# Altium footprint library SmartHalo_Footprints.PcbLib: 114 footprints (part 2 of 8)
Each footprint in its own frame and in the unit in brackets; x right, y up, seen from the top. Pads: shape width x height; smd on the part's side, far side on the other; paste and mask are expansions set on the pad; w line width, h text height; cw(c..) or ccw(c..) is an arc to the next point about the centre after c.
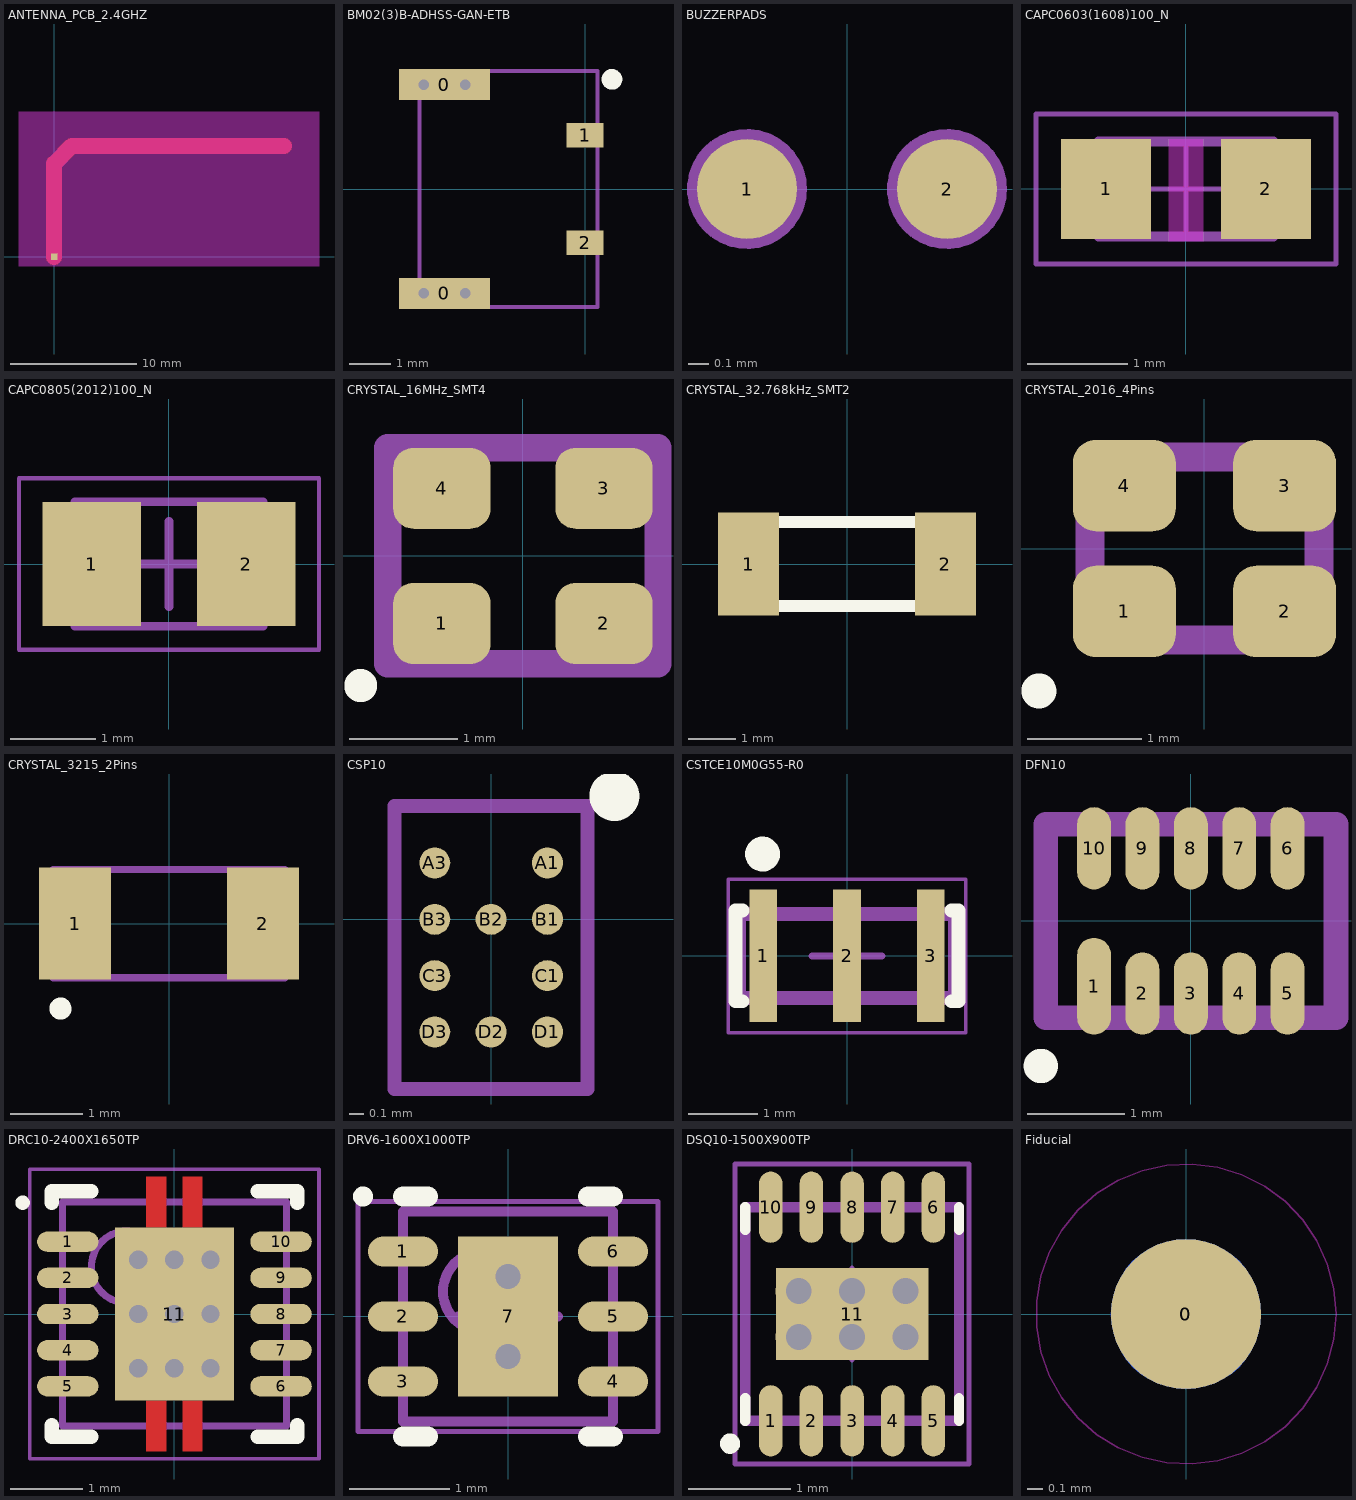
[diagram p1: the footprints below, top view; thin cyan lines are the x and y axes]

## ANTENNA_PCB_2.4GHZ [mm] "ANT_PCB_2.4GHZ_NRF51422_1.6MM_1OZ"
height 0.036
pads (1):
  rect 0.5x0.5 smd paste-1.27: 1(0,0)
Top Layer:
  lines w1.27: 0,0 0,7.37 1.4,8.77 18.16,8.77
Top Solder:
  rectangle: 17.418,8.027 18.903,9.513
Keep-Out Layer:
  region: 20.925,-0.75 20.925,11.475 -2.775,11.475 -2.775,-0.75

## BM02(3)B-ADHSS-GAN-ETB [mm] "ADH Connector, 2 pins, 0.9 x 0.6 mm pads, 2 mecanical pads 2.2 x 0.75 mm"
height 1.9
pads (4):
  rect 2.2x0.75 smd: 0(-3.4,-2.525) 0(-3.4,2.525)
  rect 0.9x0.6 smd: 1(0,1.3) 2(0,-1.3)
via -2.9,-2.525 diameter 0.457 hole 0.254
via -3.9,-2.525 diameter 0.457 hole 0.254
via -2.9,2.525 diameter 0.457 hole 0.254
via -3.9,2.525 diameter 0.457 hole 0.254
Top Overlay:
  circle w0.25: c0.65,2.65 r0.125
3D Top:
  lines w0.1: -4,-2.85 0.3,-2.85 0.3,2.85 -4,2.85 -4,-2.85
3D body: height 1.9, standoff 0, extent -4,-2.85 0.3,2.85

## BUZZERPADS [mm] "Buzzer Pogo Pin Pads, 2 x 0.5mm, Pitch 1mm"
height 10
pads (2):
  round 0.5 smd: 1(-0.5,0) 2(0.5,0)
3D Top:
  circle w0.1: c-0.5,0 r0.25
  circle w0.1: c0.5,0 r0.25
3D body: height 9, standoff 0, extent 0.25,-0.25 0.748,0.249
3D body: height 9, standoff 0, extent -0.748,-0.25 -0.25,0.25

## CAPC0603(1608)100_N [mm] "Chip Capacitor, Body 1.6x0.8mm, Height 1.0mm, IPC Medium Density"
height 1
pads (2):
  rect 0.9x1 smd: 1(-0.8,0) 2(0.8,0)
Top Layer keep-out:
  rectangle: -0.175,-0.525 0.175,0.5
3D Top:
  lines w0.1: -0.875,-0.475 -0.875,0.475 0.875,0.475 0.875,-0.475 -0.875,-0.475
Courtyard Top:
  lines w0.05: -0.475,0 0.475,0 ; 0,-0.475 0,0.475 ; -1.5,-0.75 -1.5,0.75 1.5,0.75 1.5,-0.75 -1.5,-0.75
3D body: height 1, standoff 0, extent -0.525,-0.475 0.525,0.475
3D body: height 1, standoff 0, extent -0.875,-0.475 -0.525,0.475
3D body: height 1, standoff 0, extent 0.525,-0.475 0.875,0.475

## CAPC0805(2012)100_N [mm] "Chip Capacitor, Body 2.0x1.2mm, Height 1.0mm, IPC Medium Density"
height 1
pads (2):
  rect 1.15x1.45 smd: 1(-0.9,0) 2(0.9,0)
3D Top:
  lines w0.1: -1.1,-0.725 -1.1,0.725 1.1,0.725 1.1,-0.725 -1.1,-0.725
Courtyard Top:
  lines w0.05: -1.75,-1 -1.75,1 1.75,1 1.75,-1 -1.75,-1
  lines w0.1: -0.5,0 0.5,0 ; 0,-0.5 0,0.5
3D body: height 1, standoff 0, extent -0.6,-0.725 0.6,0.725
3D body: height 1, standoff 0, extent -1.1,-0.725 -0.6,0.725
3D body: height 1, standoff 0, extent 0.6,-0.725 1.1,0.725

## CRYSTAL_16MHz_SMT4 [mm] "CRYSTAL 2.5 x 2.0 mm, 4 Pads, 1.5 mm Horizontal Pitch, 1.25 mm Vertical Pitch"
height 0.75
pads (4):
  rrect50% 0.9x0.75 smd: 1(-0.75,-0.625) 2(0.75,-0.625) 3(0.75,0.625) 4(-0.75,0.625)
Top Overlay:
  circle w0.254: c-1.5,-1.2 r0.025
3D Top:
  lines w0.254: -1.25,-1 1.25,-1 1.25,1 -1.25,1 -1.25,-1
3D body: height 0.75, standoff 0, extent -1.25,-1 1.25,1

## CRYSTAL_32.768kHz_SMT2 [mm] "CRYSTAL 32.768kHz, 4.9 x 1.8 x 0.80 mm, 4.2 mm Pitch"
height 0.8
pads (2):
  rect 1.3x2.2 smd: 1(-2.1,0) 2(2.1,0)
Top Overlay:
  lines w0.254: -2.45,-0.9 -2.45,0.9 2.45,0.9 2.45,-0.9 -2.45,-0.9
3D Top:
  lines w0.254: -2.45,-0.9 2.45,-0.9 ; -2.45,-0.9 -2.45,0.9 ; -2.45,-0.9 2.45,-0.9 ; -2.45,-0.9 -2.45,0.9 ; -2.45,0.9 2.45,0.9 ; -2.45,0.9 2.45,0.9 ; 2.45,-0.9 2.45,0.9 ; 2.45,-0.9 2.45,0.9
3D body: height 0.8, standoff 0, extent -2.45,-0.9 2.45,0.9

## CRYSTAL_2016_4Pins [mm] "CRYSTAL 2.0 x 1.6 mm, 4 Pads, 1.4 mm Horizontal Pitch, 1.1 mm Vertical Pitch"
height 0.4
pads (4):
  rrect50% 0.9x0.8 smd: 1(-0.7,-0.55) 2(0.7,-0.55) 3(0.7,0.55) 4(-0.7,0.55)
Top Overlay:
  lines w0.254: -1.428,-1.228 ccw(c-1.448,-1.245) -1.422,-1.245
3D Top:
  lines w0.254: -1,-0.8 -1,0.8 1,0.8 1,-0.8 -1,-0.8
3D body: height 0.4, standoff 0, extent -1,-0.8 1,0.8

## CRYSTAL_3215_2Pins [mm] "CRYSTAL 3.2 x 1.5 x 0.8 mm, 2 Pads 1.0 x 1.55 mm, 2.6 mm pitch"
height 0.8
pads (2):
  rect 1x1.55 smd: 1(-1.3,0) 2(1.3,0)
Top Overlay:
  lines w0.254: -1.48,-1.159 ccw(c-1.5,-1.175) -1.475,-1.175
3D Top:
  lines w0.1: -1.6,-0.75 1.6,-0.75 1.6,0.75 -1.6,0.75 -1.6,-0.75
3D body: height 0.8, standoff 0, extent -1.6,-0.75 1.6,0.75

## CSP10 [mm] "CSP10, 10 pins, 2.01 x 1.37 x 0.6 mm body, 0.22 mm circular pads, 0.4 mm pitch"
height 0.6
pads (10):
  round 0.22 smd mask+0.02: A1(0.4,0.4) A3(-0.4,0.4) B1(0.4,0) B2(0,0) B3(-0.4,0) C1(0.4,-0.4) C3(-0.4,-0.4) D1(0.4,-0.8) D2(0,-0.8) D3(-0.4,-0.8)
Top Overlay:
  circle w0.254: c0.875,0.875 r0.05
3D Top:
  lines w0.1: -0.685,-1.205 -0.685,0.805 0.685,0.805 0.685,-1.205 -0.685,-1.205
3D body: height 0.6, standoff 0.2, extent -0.685,-1.205 0.685,0.805

## CSTCE10M0G55-R0 [mm] "SMD, 3-Leads, Body 3.2x1.3mm, Pitch 1.2mm"
height 0.7
pads (3):
  rect 0.4x1.9 smd: 1(-1.2,0) 2(0,0) 3(1.2,0)
Top Overlay:
  circle w0.25: c-1.21,1.46 r0.125
  lines w0.2: -1.5,-0.65 -1.6,-0.65 -1.6,0.65 -1.5,0.65 ; 1.5,-0.65 1.6,-0.65 1.6,0.65 1.5,0.65
3D Top:
  lines w0.1: -1.6,-0.65 -1.6,0.65 1.6,0.65 1.6,-0.65 -1.6,-0.65 ; -1.5,-0.55 1.5,-0.55 1.5,0.55 -1.5,0.55 -1.5,-0.55
Courtyard Top:
  lines w0.05: -1.7,-1.1 -1.7,1.1 1.7,1.1 1.7,-1.1 -1.7,-1.1
  lines w0.1: -0.5,0 0.5,0 ; 0,-0.5 0,0.5
3D body: height 0.4, standoff 0, extent -1.6,-0.65 1.6,0.65
3D body: height 1, standoff 0, extent -1.5,-0.55 1.5,0.55

## DFN10 [mm] "DFN10, 10 pins, 2 x 3 x 0.55 mm body, 0.35 x 0.85 mm pads, 0.5 mm x 1.5 mm pitch."
height 0.55
pads (10):
  oval 0.35x1 smd mask+0.051: 1(-1,-0.675)
  oval 0.35x0.85 smd mask+0.051: 2(-0.5,-0.75) 3(0,-0.75) 4(0.5,-0.75) 5(1,-0.75) 6(1,0.75) 7(0.5,0.75) 8(0,0.75) 9(-0.5,0.75) 10(-1,0.75)
Top Overlay:
  circle w0.254: c-1.55,-1.5 r0.05
3D Top:
  lines w0.254: -1.5,-1 1.5,-1 1.5,1 -1.5,1 -1.5,-1
3D body: height 0.55, standoff 0.05, extent -1.5,-1 1.5,1

## DRC10-2400X1650TP [mm] "SON, 10-Leads, Body 3x3mm, Pitch 0.5mm, Thermal Pad 2.4x1.65mm, TI Recommended"
height 1
pads (11):
  oval 0.85x0.28 smd paste-0.025 mask+0.07: 1(-1.475,1) 2(-1.475,0.5) 3(-1.475,0) 4(-1.475,-0.5) 5(-1.475,-1) 6(1.475,-1) 7(1.475,-0.5) 8(1.475,0) 9(1.475,0.5) 10(1.475,1)
  rect 1.65x2.4 smd paste-0.825 mask+0.07: 11(0,0)
via 0.5,-0.75 diameter 0.457 hole 0.254
via -0.5,-0.75 diameter 0.457 hole 0.254
via -0.5,0.75 diameter 0.457 hole 0.254
via 0.5,0.75 diameter 0.457 hole 0.254
via 0,0 diameter 0.457 hole 0.254
via 0,0.75 diameter 0.457 hole 0.254
via 0.5,0 diameter 0.457 hole 0.254
via -0.5,0 diameter 0.457 hole 0.254
via 0,-0.75 diameter 0.457 hole 0.254
Top Layer:
  rectangle: -0.39,-1.9 -0.11,-1.2
  region: 0.39,-1.2 0.11,-1.2 0.11,-1.9 0.39,-1.9
  region: 0.39,1.9 0.11,1.9 0.11,1.2 0.39,1.2
  rectangle: -0.39,1.2 -0.11,1.9
Top Overlay:
  circle w0.1: c-2.1,1.54 r0.05
  lines w0.2: -1.7,-1.54 -1.7,-1.7 -1.15,-1.7 ; -1.7,1.54 -1.7,1.7 -1.15,1.7 ; 1.15,-1.7 1.7,-1.7 1.7,-1.54 ; 1.15,1.7 1.7,1.7 1.7,1.54
Top Paste:
  rectangle: -0.79,-1.16 -0.11,-0.11
  region: 0.79,-0.11 0.11,-0.11 0.11,-1.16 0.79,-1.16
  region: 0.79,1.16 0.11,1.16 0.11,0.11 0.79,0.11
  rectangle: -0.38,-1.88 -0.12,-1.38
  region: 0.38,-1.38 0.12,-1.38 0.12,-1.88 0.38,-1.88
  region: 0.38,1.88 0.12,1.88 0.12,1.38 0.38,1.38
  rectangle: -0.38,1.38 -0.12,1.88
  rectangle: -0.79,0.11 -0.11,1.16
3D Top:
  circle w0.1: c-0.65,0.65 r0.5
  lines w0.1: -1.55,-1.55 1.55,-1.55 1.55,1.55 -1.55,1.55 -1.55,-1.55
Courtyard Top:
  lines w0.05: -2,-2 2,-2 2,2 -2,2 -2,-2
3D body: height 1, standoff 0, extent -1.55,-1.55 1.55,1.55

## DRV6-1600X1000TP [mm] "SON, 6-Leads, Body 2x2mm, Pitch 0.65mm, Thermal Pad 1.6x1mm, TI Recommended"
height 0.8
pads (7):
  oval 0.7x0.3 smd paste-0.025 mask+0.07: 1(-1.05,0.65) 2(-1.05,0) 3(-1.05,-0.65) 4(1.05,-0.65) 5(1.05,0) 6(1.05,0.65)
  rect 1x1.6 smd paste-0.5 mask+0.07: 7(0,0)
via 0,-0.4 diameter 0.457 hole 0.254
via 0,0.4 diameter 0.457 hole 0.254
Top Overlay:
  circle w0.1: c-1.45,1.2 r0.05
  lines w0.2: -1.05,-1.2 -0.8,-1.2 ; -1.05,1.2 -0.8,1.2 ; 0.8,-1.2 1.05,-1.2 ; 0.8,1.2 1.05,1.2
Top Paste:
  rectangle: -0.4,-0.7 0.4,0.7
3D Top:
  circle w0.1: c-0.25,0.25 r0.4
  lines w0.1: -1.05,-1.05 1.05,-1.05 1.05,1.05 -1.05,1.05 -1.05,-1.05
Courtyard Top:
  lines w0.05: -1.5,-1.15 1.5,-1.15 1.5,1.15 -1.5,1.15 -1.5,-1.15
  lines w0.1: -0.5,0 0.5,0 ; 0,-0.5 0,0.5
3D body: height 0.8, standoff 0, extent -1.05,-1.05 1.05,1.05

## DSQ10-1500X900TP [mm] "WSON-10, 10 pins, 0.23 x 0.7 mm pads, 0.4 x 2.1 mm pitch, Thermal pad 0.9 x 1.5 mm"
height 0.8
pads (11):
  oval 0.23x0.7 smd mask+0.051: 1(-0.8,-1.05) 2(-0.4,-1.05) 3(0,-1.05) 4(0.4,-1.05) 5(0.8,-1.05) 6(0.8,1.05) 7(0.4,1.05) 8(0,1.05) 9(-0.4,1.05) 10(-0.8,1.05)
  rect 1.5x0.9 smd mask+0.051: 11(0,0)
via -0.525,-0.225 diameter 0.457 hole 0.254
via -0.525,0.225 diameter 0.457 hole 0.254
via 0,0.225 diameter 0.457 hole 0.254
via 0,-0.225 diameter 0.457 hole 0.254
via 0.525,-0.225 diameter 0.457 hole 0.254
via 0.525,0.225 diameter 0.457 hole 0.254
Top Overlay:
  circle w0.1: c-1.2,-1.275 r0.05
  lines w0.1: -1.05,-1.05 -1.05,-0.825 ; -1.05,0.825 -1.05,1.05 ; 1.05,-1.05 1.05,-0.825 ; 1.05,0.825 1.05,1.05
3D Top:
  lines w0.1: -1.05,-1.05 1.05,-1.05 1.05,1.05 -1.05,1.05 -1.05,-1.05
Courtyard Top:
  lines w0.05: -0.45,0 0.45,0 ; 0,-0.45 0,0.45 ; -1.15,-1.475 1.15,-1.475 1.15,1.475 -1.15,1.475 -1.15,-1.475
3D body: height 0.8, standoff 0.05, extent -1.05,-1.05 1.05,1.05

## Fiducial [mm]
pads (2):
  round 1 smd paste-10 mask+0.5: 0(0,0)
  round 1 smd far side paste-10 mask+0.5: 0(0,0)
Keep-Out Layer:
  circle w0.01: c0,0 r1